# Altium footprint library TO-46-3.PcbLib: 1 footprints
Each footprint in its own frame and in the unit in brackets; x right, y up, seen from the top. Pads: shape width x height; smd on the part's side, far side on the other; paste and mask are expansions set on the pad; w line width, h text height; cw(c..) or ccw(c..) is an arc to the next point about the centre after c.
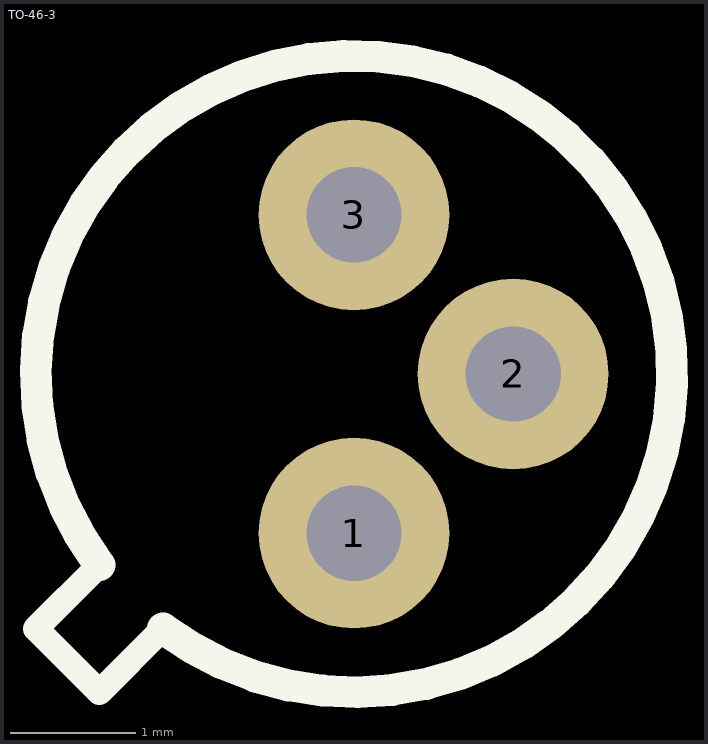
[diagram p0: the footprint, top view; thin cyan lines are the x and y axes]

## TO-46-3 [mil]
pads (3):
  round 60 hole 30: 1(-11455,-27420) 2(-11405,-27370) 3(-11455,-27320)
Top Overlay:
  lines w8: -11535,-27430 -11555,-27450 -11535,-27470 -11515,-27450
  lines w10: -11535,-27430 cw(c-11455,-27370) -11515,-27450